# EAGLE library part HEADER_POS12_? (library con-molex-c-grid-sl)
Molex -C-Grid® / SL Series connector Wire-to-Board 2.54 mm (0.100") pitch header, 12 positions.
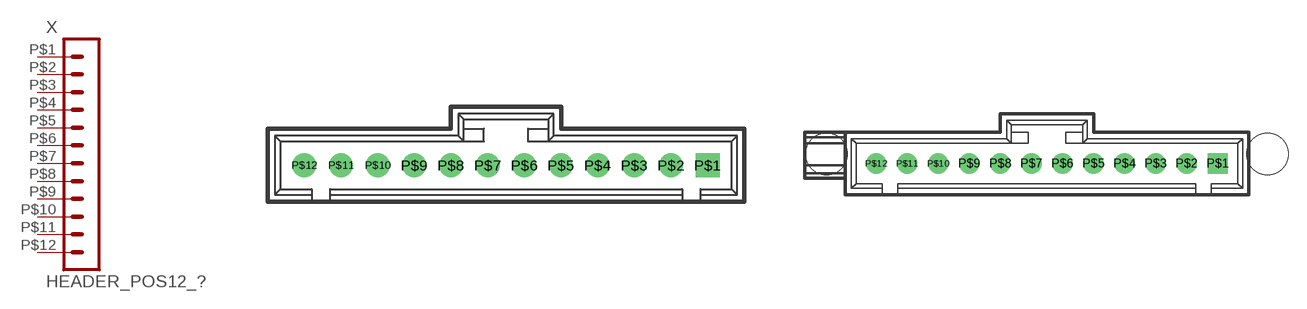
[diagram p6: symbol with the pads of 70543-POS12; footprints 70543-POS12, 70545-POS12]

Designator prefix X

## HEADER_POS12_70543  [70543-POS12]
P$1  1  pas
P$2  2  pas
P$3  3  pas
P$4  4  pas
P$5  5  pas
P$6  6  pas
P$7  7  pas
P$8  8  pas
P$9  9  pas
P$10  10  pas
P$11  11  pas
P$12  12  pas

## HEADER_POS12_70545  [70545-POS12]
Pads as for 70543-POS12

## HEADER_POS12_70553  [70553-POS12]
Pads as for 70543-POS12

## HEADER_POS12_70555  [70555-POS12]
Pads as for 70543-POS12

## HEADER_POS12_70634  [70634-POS12]
Pads as for 70543-POS12

## HEADER_POS12_74099  [74099-POS12]
Pads as for 70543-POS12

## Footprint 70543-POS12 (pad centres in mm)
Molex C-Grid/SL - 70543 - Header, Shrouded, Thru Hole, Latch Holder http://www.molex.com/pdm_docs/sd/705430001_sd.pdf
drill 1.1 square: P$1 13.97,0
drill 1.1 round: P$2 11.43,0; P$3 8.89,0; P$4 6.35,0; P$5 3.81,0; P$6 1.27,0; P$7 -1.27,0; P$8 -3.81,0; P$9 -6.35,0; P$10 -8.89,0; P$11 -11.43,0; P$12 -13.97,0

## Footprint 70545-POS12 (pad centres in mm)
Molex C-Grid/SL - 70545 - Header, Shrouded, Thru Hole, Latch Holder, Board Guide http://www.molex.com/pdm_docs/sd/705450003_sd.pdf
drill 1.1 square: P$1 13.97,0
drill 1.1 round: P$2 11.43,0; P$3 8.89,0; P$4 6.35,0; P$5 3.81,0; P$6 1.27,0; P$7 -1.27,0; P$8 -3.81,0; P$9 -6.35,0; P$10 -8.89,0; P$11 -11.43,0; P$12 -13.97,0
hole 3.404 at -18.034,0.762
hole 3.404 at 18.034,0.762

## Footprint 70553-POS12 (pad centres in mm)
Molex C-Grid/SL - 70553 - Header, Shrouded, Thru Hole, Right Angle, Latch Holder http://www.molex.com/pdm_docs/sd/705530106_sd.pdf
drill 1.1 square: P$1 -13.97,0
drill 1.1 round: P$2 -11.43,0; P$3 -8.89,0; P$4 -6.35,0; P$5 -3.81,0; P$6 -1.27,0; P$7 1.27,0; P$8 3.81,0; P$9 6.35,0; P$10 8.89,0; P$11 11.43,0; P$12 13.97,0

## Footprint 70555-POS12 (pad centres in mm)
Molex C-Grid/SL - 70555 - Header, Shrouded, Thru Hole, Right Angle, Latch Holder, Board Guide. http://www.molex.com/pdm_docs/sd/705550001_sd.pdf
drill 1.1 square: P$1 -13.97,0
drill 1.1 round: P$2 -11.43,0; P$3 -8.89,0; P$4 -6.35,0; P$5 -3.81,0; P$6 -1.27,0; P$7 1.27,0; P$8 3.81,0; P$9 6.35,0; P$10 8.89,0; P$11 11.43,0; P$12 13.97,0
hole 3.404 at -15.367,8.636
hole 3.404 at 15.367,8.636

## Footprint 70634-POS12 (pad centres in mm)
Molex C-Grid/SL - 70634 - Header, Shrouded, Surface Mount, Right Angle, Latch Holder http://www.molex.com/pdm_docs/sd/015912045_sd.pdf
smd 1.651 x 5.334: P$1 -13.97,0; P$2 -11.43,0; P$3 -8.89,0; P$4 -6.35,0; P$5 -3.81,0; P$6 -1.27,0; P$7 1.27,0; P$8 3.81,0; P$9 6.35,0; P$10 8.89,0; P$11 11.43,0; P$12 13.97,0
hole 3.404 at -15.367,10.693
hole 3.404 at 15.367,10.693

## Footprint 74099-POS12 (pad centres in mm)
Molex C-Grid/SL - 74099 - Header, Shrouded, Surface Mount, Latch Holder http://www.molex.com/pdm_docs/sd/740991004_sd.pdf
smd 1.27 x 3.175: P$1 13.97,2.095; P$2 11.43,-2.095; P$3 8.89,2.095; P$4 6.35,-2.095; P$5 3.81,2.095; P$6 1.27,-2.095; P$7 -1.27,2.095; P$8 -3.81,-2.095; P$9 -6.35,2.095; P$10 -8.89,-2.095; P$11 -11.43,2.095; P$12 -13.97,-2.095